# EAGLE library part POWERSOL_PCA10040NORDIC (library SolarPowerBoard)
Blue Board
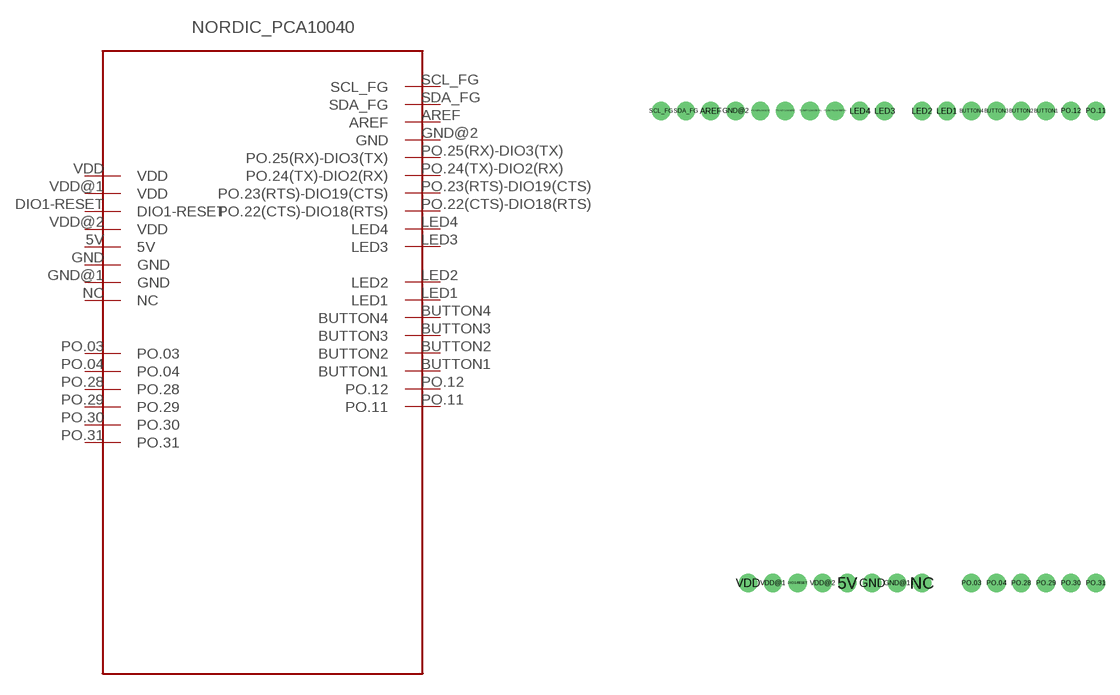
[diagram p3: symbol with the pads of POWERSOL_SEPS_BB; footprint POWERSOL_SEPS_BB]

Designator prefix -

## POWERSOL_PCA10040NORDIC  [POWERSOL_SEPS_BB]
5V  5V
AREF  AREF
BUTTON1  BUTTON1
BUTTON2  BUTTON2
BUTTON3  BUTTON3
BUTTON4  BUTTON4
DIO1-RESET  DIO1-RESET
GND  GND
GND@1  GND
GND@2  GND
LED1  LED1
LED2  LED2
LED3  LED3
LED4  LED4
NC  NC
PO.03  PO.03
PO.04  PO.04
PO.11  PO.11
PO.12  PO.12
PO.22(CTS)-DIO18(RTS)  PO.22(CTS)-DIO18(RTS)
PO.23(RTS)-DIO19(CTS)  PO.23(RTS)-DIO19(CTS)
PO.24(TX)-DIO2(RX)  PO.24(TX)-DIO2(RX)
PO.25(RX)-DIO3(TX)  PO.25(RX)-DIO3(TX)
PO.28  PO.28
PO.29  PO.29
PO.30  PO.30
PO.31  PO.31
SCL_FG  SCL_FG
SDA_FG  SDA_FG
VDD  VDD
VDD@1  VDD
VDD@2  VDD

## Footprint POWERSOL_SEPS_BB (pad centres in mm)
drill 1.016 pad 1.88: 5V -25.4,0; AREF -39.37,48.26; BUTTON1 -5.08,48.26; BUTTON2 -7.62,48.26; BUTTON3 -10.16,48.26; BUTTON4 -12.7,48.26; DIO1-RESET -30.48,0; GND -22.86,0; GND@1 -20.32,0; GND@2 -36.83,48.26; LED1 -15.24,48.26; LED2 -17.78,48.26; LED3 -21.59,48.26; LED4 -24.13,48.26; NC -17.78,0; PO.03 -12.7,0; PO.04 -10.16,0; PO.11 0,48.26; PO.12 -2.54,48.26; PO.22(CTS)-DIO18(RTS) -26.67,48.26; PO.23(RTS)-DIO19(CTS) -29.21,48.26; PO.24(TX)-DIO2(RX) -31.75,48.26; PO.25(RX)-DIO3(TX) -34.29,48.26; PO.28 -7.62,0; PO.29 -5.08,0; PO.30 -2.54,0; PO.31 0,0; SCL_FG -44.45,48.26; SDA_FG -41.91,48.26; VDD -35.56,0; VDD@1 -33.02,0; VDD@2 -27.94,0